# Altium schematic symbol library HW_SSB_LITE_R1.SCHLIB: 59 symbols (part 2 of 2)
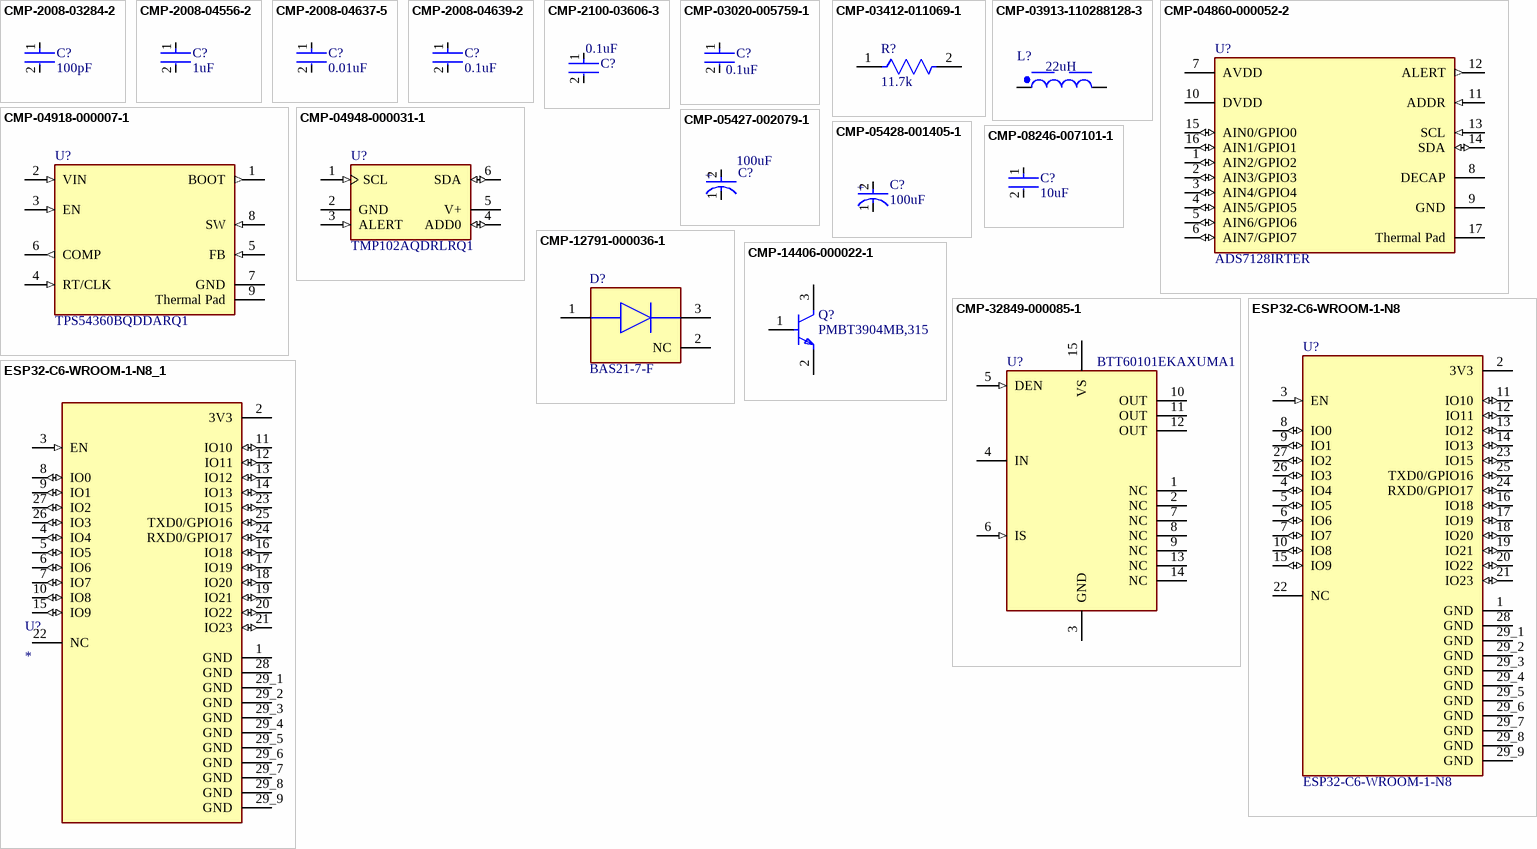
[diagram p2: symbols CMP-2008-03284-2 to ESP32-C6-WROOM-1-N8_1]

## CMP-12791-000036-1
designator D?, comment BAS21-7-F
DIODE GEN PURP 200V 200MA SOT23; Manufacturer: Diodes Inc.; Max Repetitive Reverse Voltage: 250V; Forward Current: 400mA; Max Surge Forward Current: 0.5A; Standoff Height: 0.013mm; Capacitance: 5pF; Max Junction Temp: +150°C; Peak Reverse Current: 0.1uA; Value: 5pF; Device Class L1: Discrete Semiconductors; Category: Diode; Mouser Description: Diodes - General Purpose, Power, Switching 200V 350mW; Digikey Description: DIODE GEN PURP 200V 200MA SOT23; Manufacturer Part Number: BAS21-7-F; Device Class L2: Diodes; RoHS: TRUE; Device Class L3: Rectifier Diodes; Lead Free: Yes; Temperature Range High: +150°C; Ipc Land Pattern Name: SOT92P240X102-3; ComponentLink2Description: Datasheet; Octopart: https://octopart.com/bas21-7-f-diodes+inc.-325943; Reverse Voltage: 200V; Height: 1.1mm; Automotive: No; ComponentLink2URL: https://www.diodes.com/assets/Datasheets/Ds12004.pdf; Temperature: -65°C to +150°C; Temperature Range Low: -65°C; Footprint Url: https://www.diodes.com/assets/Package-Files/SOT23.pdf; Package: SOT23
footprint FP-SOT23-MFG
footprint FP-SOT23-IPC_C
footprint FP-SOT23-IPC_B
footprint FP-SOT23-IPC_A
pins: 1 A, 2 NC, 3 C

## CMP-14406-000022-1
designator Q?, comment PMBT3904MB,315
TRANS NPN 40V 0.2A 3DFN
footprint FP-SOT883B-MFG
pins: 1 B, 2 E, 3 C

## CMP-32849-000085-1
designator U?, comment BTT60101EKAXUMA1
IC PWR SWITCH N-CHAN 1:1 DSO-14; Fault Protection: Over Voltage; Max Supply Voltage: 36V; Supply Current: 2mA; Interface: On/Off; Output Configuration: High Side; Max Power Dissipation: 1.6W; Number of Outputs: 1; Max Output Current: 9A; RoHS Compliant: Yes; Series: -; Max Operating Temperature: 150°C; Lead Free: Lead Free; Number of Channels: 1; Nominal Supply Current: 2mA; Min Operating Temperature: -40°C; Mount: Surface Mount; Packaging: Cut Tape; Number of Pins: 14; Halogen Free: Halogen Free
footprint FP-PG-DSO-14-MFG
footprint FP-PG-DSO-14-IPC_C
footprint FP-PG-DSO-14-IPC_B
footprint FP-PG-DSO-14-IPC_A
pins: 1 NC, 2 NC, 3 GND (power), 4 IN (power), 5 DEN (in), 6 IS (in), 7 NC, 8 NC, 9 NC, 10 OUT, 11 OUT, 12 OUT, 13 NC, 14 NC, 15 VS (power)

## ESP32-C6-WROOM-1-N8
designator U?
WiFi-Module 802.11 2, 4GHz 150Mb/s; Manufacturer: Espressif Systems; Supplier: DigiKey; Supplier Part Number: 1965-ESP32-C6-WROOM-1-N8CT-ND; Manufacturer Part Number: ESP32-C6-WROOM-1-N8; Category: RF Transceiver Modules and Modems; Stock: 3437; Pricing: 1=5,38, 10=4,66, 25=4,4084, 100=4,0625, 250=3,85516 (USD); ComponentLink1URL: https://datasheet.octopart.com:443/ESP32-C6-WROOM-1-N8-Espressif-Systems-datasheet-188867345.pdf?src-supplier=TME; ComponentLink1Description: https://datasheet.octopart.com:443/ESP32-C6-WROOM-1-N8-Espressif-Systems-datasheet-188867345.pdf?src-supplier=TME; ComponentLink2URL: https://datasheet.octopart.com:443/ESP32-C6-WROOM-1-N8-Espressif-Systems-datasheet-188867343.pdf?src-supplier=TME; ComponentLink2Description: https://datasheet.octopart.com:443/ESP32-C6-WROOM-1-N8-Espressif-Systems-datasheet-188867343.pdf?src-supplier=TME; ComponentLink3URL: https://datasheet.octopart.com:443/ESP32-C6-WROOM-1-N8-Espressif-Systems-datasheet-176782707.pdf?src-supplier=SOS+electronic; ComponentLink3Description: https://datasheet.octopart.com:443/ESP32-C6-WROOM-1-N8-Espressif-Systems-datasheet-176782707.pdf?src-supplier=SOS+electronic
footprint ESP32-C6-WROOM-1-N8
pins: 1 GND (power), 2 3V3 (power), 3 EN (in), 4 IO4 (io), 5 IO5 (io), 6 IO6 (io), 7 IO7 (io), 8 IO0 (io), 9 IO1 (io), 10 IO8 (io), 11 IO10 (io), 12 IO11 (io), 13 IO12 (io), 14 IO13 (io), 15 IO9 (io), 16 IO18 (io), 17 IO19 (io), 18 IO20 (io), 19 IO21 (io), 20 IO22 (io), 21 IO23 (io), 22 NC, 23 IO15 (io), 24 RXD0/GPIO17 (io), 25 TXD0/GPIO16 (io), 26 IO3 (io), 27 IO2 (io), 28 GND (power), 29_1 GND (power), 29_2 GND (power), 29_3 GND (power), 29_4 GND (power), 29_5 GND (power), 29_6 GND (power), 29_7 GND (power), 29_8 GND (power), 29_9 GND (power)

## ESP32-C6-WROOM-1-N8_1
designator U?
WiFi-Module 802.11 2, 4GHz 150Mb/s; Manufacturer: Espressif Systems; Manufacturer Part Number: ESP32-C6-WROOM-1-N8; Supplier: DigiKey; Supplier Part Number: 1965-ESP32-C6-WROOM-1-N8CT-ND; Category: RF Transceiver Modules and Modems; Stock: 3437; Pricing: 1=5,38, 10=4,66, 25=4,4084, 100=4,0625, 250=3,85516 (USD); ComponentLink1URL: https://datasheet.octopart.com:443/ESP32-C6-WROOM-1-N8-Espressif-Systems-datasheet-188867345.pdf?src-supplier=TME; ComponentLink1Description: https://datasheet.octopart.com:443/ESP32-C6-WROOM-1-N8-Espressif-Systems-datasheet-188867345.pdf?src-supplier=TME; ComponentLink2URL: https://datasheet.octopart.com:443/ESP32-C6-WROOM-1-N8-Espressif-Systems-datasheet-188867343.pdf?src-supplier=TME; ComponentLink2Description: https://datasheet.octopart.com:443/ESP32-C6-WROOM-1-N8-Espressif-Systems-datasheet-188867343.pdf?src-supplier=TME; ComponentLink3URL: https://datasheet.octopart.com:443/ESP32-C6-WROOM-1-N8-Espressif-Systems-datasheet-176782707.pdf?src-supplier=SOS+electronic; ComponentLink3Description: https://datasheet.octopart.com:443/ESP32-C6-WROOM-1-N8-Espressif-Systems-datasheet-176782707.pdf?src-supplier=SOS+electronic
footprint ESP32-C6-WROOM-1-N8
pins: 1 GND (power), 2 3V3 (power), 3 EN (in), 4 IO4 (io), 5 IO5 (io), 6 IO6 (io), 7 IO7 (io), 8 IO0 (io), 9 IO1 (io), 10 IO8 (io), 11 IO10 (io), 12 IO11 (io), 13 IO12 (io), 14 IO13 (io), 15 IO9 (io), 16 IO18 (io), 17 IO19 (io), 18 IO20 (io), 19 IO21 (io), 20 IO22 (io), 21 IO23 (io), 22 NC, 23 IO15 (io), 24 RXD0/GPIO17 (io), 25 TXD0/GPIO16 (io), 26 IO3 (io), 27 IO2 (io), 28 GND (power), 29_1 GND (power), 29_2 GND (power), 29_3 GND (power), 29_4 GND (power), 29_5 GND (power), 29_6 GND (power), 29_7 GND (power), 29_8 GND (power), 29_9 GND (power)